# EAGLE library part DMP2008UFG-7 (library DMP2008UFG-7)
Diodes Inc DMP2008UFG-7 P-channel MOSFET Transistor, 11 A, -20 V, 8-Pin POWERDI3333 Source: Datasheet <https://www.diodes.com//assets/Datasheets/DMP2008UFG.pdf>
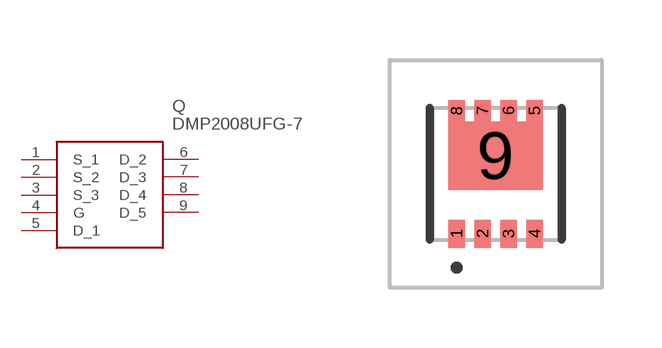
[diagram p0: symbol with the pads of DMTH8008LFGQ7; footprint DMTH8008LFGQ7]

Designator prefix Q

## DMP2008UFG-7 (Description: Diodes Inc DMP2008UFG-7 P-channel MOSFET Transistor, 11 A, -20 V, 8-Pin POWERDI3333; Height: 0.8mm; Manufacturer_Name: Diodes Incorporated; Manufacturer_Part_Number: DMP2008UFG-7; Mouser_Part_Number: 621-DMP2008UFG-7; Mouser_Price-Stock: https://www.mouser.co.uk/ProductDetail/Diodes-Incorporated/DMP2008UFG-7?qs=wo71MgyKIyHArDy7nW0BNA%3D%3D)  [DMTH8008LFGQ7]
1  S_1
2  S_2
3  S_3
4  G
5  D_1
6  D_2
7  D_3
8  D_4
9  D_5

## Footprint DMTH8008LFGQ7 (pad centres in mm)
PowerDI3333-8_24
smd 0.42 x 0.7: 1 -0.975,-2.81; 2 -0.325,-2.81; 3 0.325,-2.81; 4 0.975,-2.81
smd 0.42 x 0.54: 5 0.975,0.27; 6 0.325,0.27; 7 -0.325,0.27; 8 -0.975,0.27
smd 2.37 x 1.71: 9 0,-0.855